# Altium footprint library PCB_Library.PcbLib: 21 footprints (part 1 of 2)
Each footprint in its own frame and in the unit in brackets; x right, y up, seen from the top. Pads: shape width x height; smd on the part's side, far side on the other; paste and mask are expansions set on the pad; w line width, h text height; cw(c..) or ccw(c..) is an arc to the next point about the centre after c.
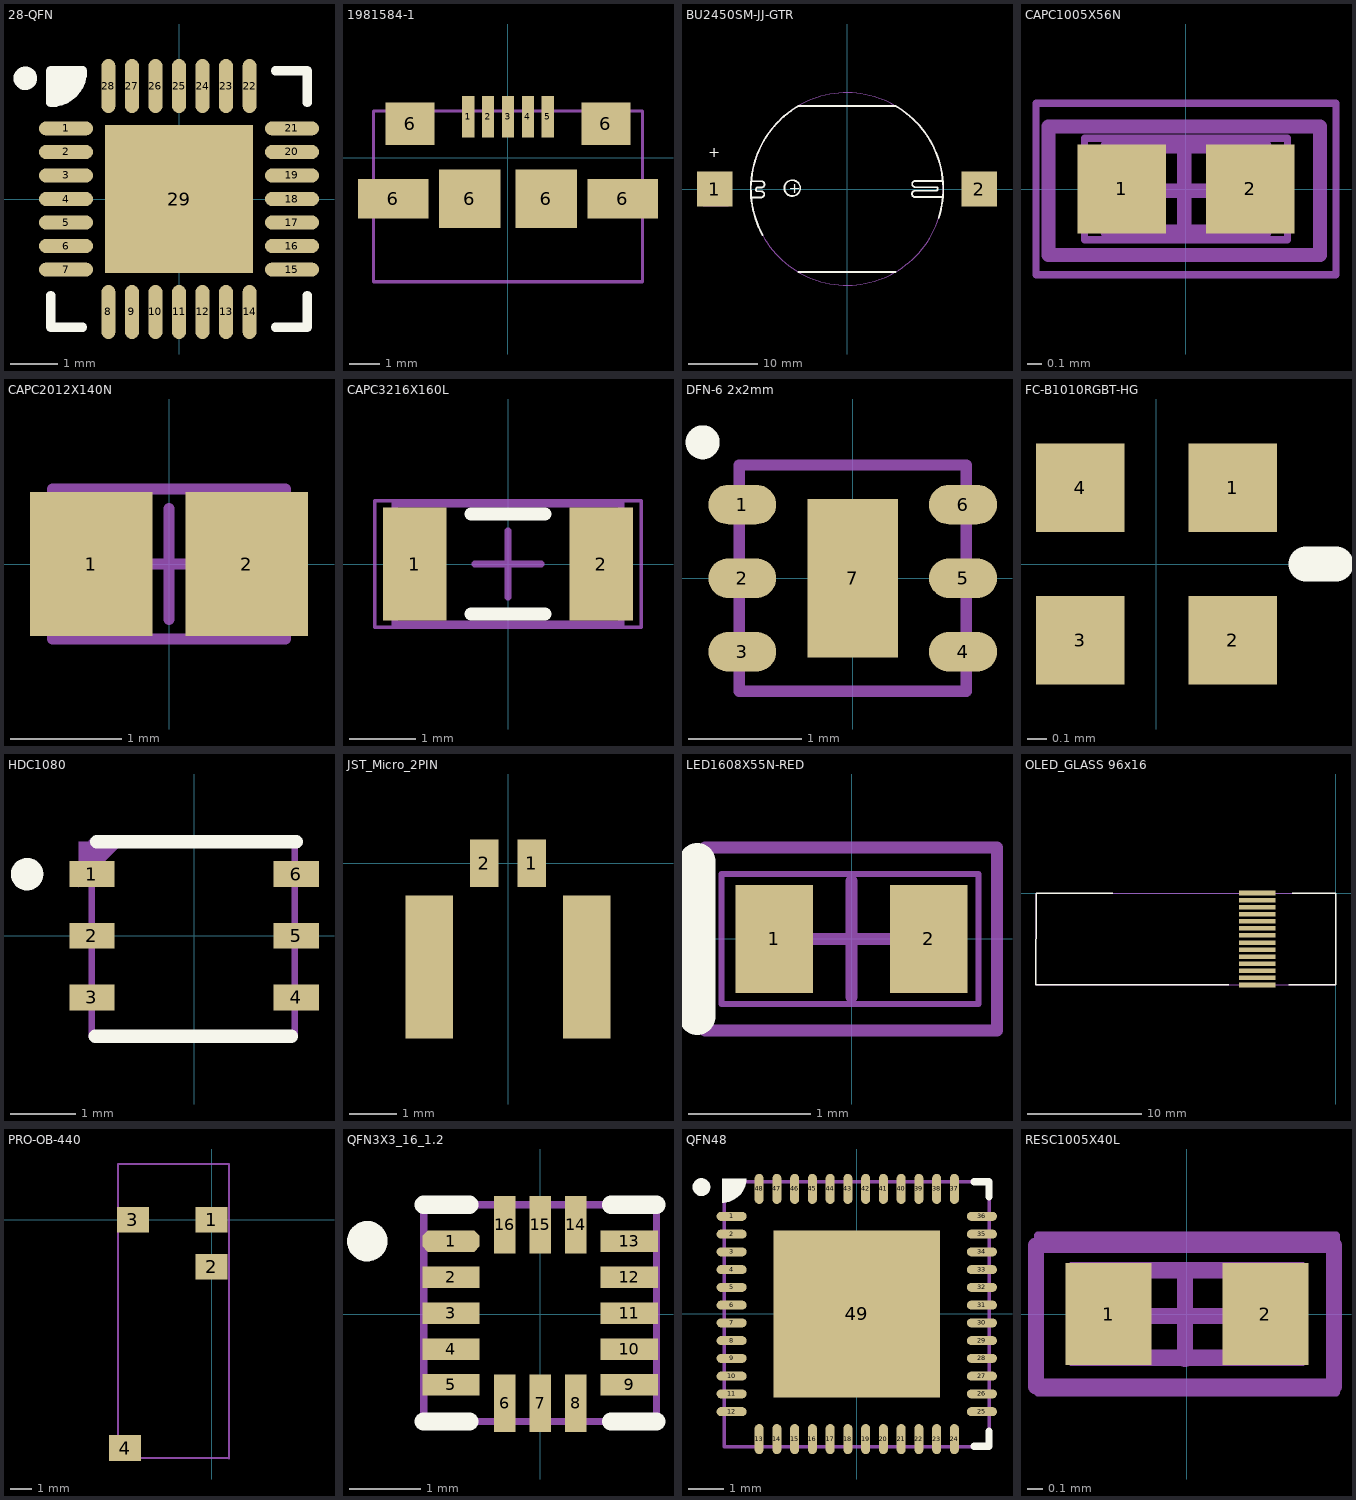
[diagram p0: the footprints below, top view; thin cyan lines are the x and y axes]

## 28-QFN [mm] "QFN, 28-Leads, Body 5.00x5.00mm, Pitch 0.50mm, Thermal Pad 3.15x3.15mm, IPC Medium Density"
height 1
pads (29):
  oval 1.15x0.3 smd: 1(-2.4,1.5) 2(-2.4,1) 3(-2.4,0.5) 4(-2.4,0) 5(-2.4,-0.5) 6(-2.4,-1) 7(-2.4,-1.5) 15(2.4,-1.5) 16(2.4,-1) 17(2.4,-0.5) 18(2.4,0) 19(2.4,0.5) 20(2.4,1) 21(2.4,1.5)
  oval 0.3x1.15 smd: 8(-1.5,-2.4) 9(-1,-2.4) 10(-0.5,-2.4) 11(0,-2.4) 12(0.5,-2.4) 13(1,-2.4) 14(1.5,-2.4) 22(1.5,2.4) 23(1,2.4) 24(0.5,2.4) 25(0,2.4) 26(-0.5,2.4) 27(-1,2.4) 28(-1.5,2.4)
  rect 3.15x3.15 smd paste-0.635: 29(0,0)
Top Overlay:
  circle w0.25: c-3.266,2.565 r0.125
  region: -2.725,2.725 -2.05,2.725 -2.05,2.659 -2.076,2.528 -2.127,2.405 -2.201,2.295 -2.295,2.201 -2.405,2.127 -2.528,2.076 -2.659,2.05 -2.725,2.05
  lines w0.2: -2.725,-2.05 -2.725,-2.725 -2.05,-2.725 ; 2.05,-2.725 2.725,-2.725 2.725,-2.05 ; 2.05,2.725 2.725,2.725 2.725,2.05 ; -2.725,2.05 ccw(c-2.725,2.725) -2.05,2.725 -2.725,2.725 -2.725,2.05
Mechanical 15:
  lines w0.1: -0.5,0 0.5,0 ; 0,-0.5 0,0.5
3D body: height 1, standoff 0.01, extent -2.575,-2.575 2.575,2.575

## 1981584-1 [mm] "CONN RCPT MICRO USB TYPE AB"
height 3.2
pads (11):
  rect 0.4x1.35 smd: 1(-1.3,1.338) 2(-0.65,1.338) 3(0,1.338) 4(0.65,1.338) 5(1.3,1.338)
  rect 2.3x1.3 smd: 6(-3.75,-1.337) 6(3.75,-1.337)
  rect 1.6x1.4 smd: 6(-3.2,1.113) 6(3.2,1.113)
  rect 2x1.9 smd: 6(-1.25,-1.337) 6(1.25,-1.337)
Mechanical 5:
  lines w0.102: -4.4,-4.05 -4.4,1.525 4.4,1.525 4.4,-4.05 -4.4,-4.05
  text ".Designator" at -2.54,2.794 h0.51
3D body "1981584-1.STEP": height 2.75, standoff -0.3, extent -4.4,-4.05 4.4,1.55

## BU2450SM-JJ-GTR [mm] "HOLDER,BATT,COIN,24.5MM,SMT"
height 7.112
pads (2):
  rect 5.08x5.08 smd: 1(-19.05,0) 2(19.05,0)
Top Overlay:
  circle w0.254: c-7.874,0.127 r1.143
  lines w0.254: -13.792,-1.219 -12.361,-1.219 ccw(c-12.362,-0.769) -12.364,-0.318 -12.999,-0.318 ; -13.76,1.108 -12.328,1.108 cw(c-12.329,0.658) -12.332,0.207 -12.967,0.207 ccw(c-12.742,-0.08) -13.03,-0.305 ; -12.163,-6.609 cw(c0,0) -6.991,11.948 ; -6.985,-11.938 6.985,-11.938 ; -6.985,11.938 -0.127,11.938 0.127,11.938 6.985,11.938 ; 6.991,11.948 cw(c0,0) 13.2,-4.168 ; 12.903,0.267 9.833,0.267 cw(c9.831,0.718) 9.83,1.168 13.741,1.168 ; 12.979,0.254 cw(c12.692,0.03) 12.916,-0.258 9.801,-0.258 ccw(c9.798,-0.709) 9.797,-1.159 13.709,-1.159
  text "+" at -19.99,4.547 h1.52
  text "+" at -8.382,-0.635 h1.52
Mechanical 5:
  lines w0.102: -17.619,2.374 -17.568,2.426 ; -17.136,2.4 -20.701,2.4 -20.701,-2.4 -17.085,-2.4 ; -13.633,-2.404 ccw(c0,0) -13.633,2.404
  text ".Designator" at 0,-0.254 h0.51
3D body "BU2450SM-JJ-GTR.STEP": height 7.38, standoff 0.13, extent -21.377,-12 21.123,12
3D body: height 3, standoff 0, extent 54.991,-14.478 54.991,-14.478
3D body: height 3, standoff 0, extent 84.582,7.112 84.582,7.112
3D body: height 3, standoff 0, extent 88.519,-1.651 88.519,-1.651
3D body "CR2450.step": height 6.58, standoff 1.5, extent -12.319,-12.063 12.064,12.319

## CAPC1005X56N [mm] "Chip Capacitor, 2-Leads, Body 1.0x0.5mm, IPC Medium Density (0402 ceramic)"
height 0.56
pads (2):
  rect 0.62x0.62 smd paste-0.305: 1(-0.45,0) 2(0.45,0)
Mechanical 5:
  lines w0.051: -0.711,-0.356 -0.711,0.356 0.711,0.356 0.711,-0.356 -0.711,-0.356
  text ".Designator" at -0.254,-0.203 h0.38
Mechanical 13:
  lines w0.1: -0.55,-0.3 0.55,-0.3 0.55,0.3 -0.55,0.3 -0.55,-0.3
Mechanical 15:
  lines w0.05: -0.3,0 0.3,0 ; 0,-0.3 0,0.3 ; -1.05,-0.6 1.05,-0.6 1.05,0.6 -1.05,0.6 -1.05,-0.6
  lines w0.1: -0.287,-0.013 0.263,-0.013 ; -0.012,-0.288 -0.012,0.262 ; -0.962,-0.463 0.938,-0.463 0.938,0.437 -0.962,0.437 -0.962,-0.463
3D body "RESC1005X40N.STEP": height 0.39, standoff -0.01, extent -0.512,-0.263 0.488,0.237
3D body: height 0.6, standoff 0, extent 0.3,-0.3 0.55,0.3
3D body: height 0.6, standoff 0, extent -0.55,-0.3 -0.3,0.3
3D body: height 0.6, standoff 0, extent -0.3,-0.3 0.3,0.3

## CAPC2012X140N [mm] "Chip Capacitor, 2-Leads, Body 2.0x1.3mm, IPC Medium Density (0805 ceramic)"
height 1.35
pads (2):
  rect 1.1x1.3 smd: 1(-0.7,0) 2(0.7,0)
Mechanical 5:
  lines w0.1: -1.05,-0.675 1.05,-0.675 1.05,0.675 -1.05,0.675 -1.05,-0.675
  text ".Designator" at -0.33,-0.254 h0.51
Mechanical 15:
  lines w0.1: -0.5,0 0.5,0 ; 0,-0.5 0,0.5
3D body "CAPC2012X140N.STEP": height 1.24, standoff -0.01, extent -1,-0.62 1,0.63

## CAPC3216X160L [mm] "Chip Capacitor, 2-Leads, Body 3.2x1.6mm, IPC Least Density(C1206)"
height 1.6
pads (2):
  rect 0.95x1.7 smd: 1(-1.4,0) 2(1.4,0)
Top Overlay:
  lines w0.2: -0.55,-0.75 0.55,-0.75 ; -0.55,0.75 0.55,0.75
Mechanical 5:
  lines w0.1: -1.7,-0.9 -1.7,0.9 1.7,0.9 1.7,-0.9 -1.7,-0.9
  text ".Designator" at -0.33,-0.254 h0.51
Mechanical 15:
  lines w0.05: -2,-0.95 -2,0.95 2,0.95 2,-0.95 -2,-0.95
  lines w0.1: -0.5,0 0.5,0 ; 0,-0.5 0,0.5
3D body: height 1.9, standoff 0, extent -1.2,-0.9 1.2,0.9
3D body: height 1.9, standoff 0, extent -1.7,-0.9 -1.2,0.9
3D body: height 1.9, standoff 0, extent 1.2,-0.9 1.7,0.9

## DFN-6 2x2mm [mm] "DFN, 6-Leads, Body 2.00x2.00mm, Pitch 0.65mm, IPC High Density"
height 0.8
pads (7):
  oval 0.6x0.35 smd: 1(-0.975,0.65) 2(-0.975,0) 3(-0.975,-0.65) 4(0.975,-0.65) 5(0.975,0) 6(0.975,0.65)
  rect 0.8x1.4 smd paste-0.15: 7(0,0)
Top Overlay:
  circle w0.2: c-1.325,1.2 r0.05
Mechanical 5:
  lines w0.1: -1.002,-1 -1.002,1 1.002,1 1.002,-1 -1.002,-1 ; -1.002,-1 -1.002,-1
3D body "DFN 6 2x2.step": height 0.75, standoff 0, extent -1.002,-1 1.002,1
3D body: height 4.99, standoff 0, extent 2.65,-0.275 2.65,-0.275

## FC-B1010RGBT-HG [mm] "LED,RGB,SMD,RoHS"
pads (4):
  rect 0.45x0.45 smd: 1(0.387,0.388) 2(0.387,-0.387) 3(-0.387,-0.387) 4(-0.387,0.388)
Top Overlay:
  lines w0.178: 0.761,0 0.914,0
Mechanical 5:
  text ".Designator" at -0.225,-0.25 h0.51
3D body: height 1.2, standoff -1.2, extent -0.387,0.388 -0.387,0.388
3D body: height 0.9, standoff 0, extent -0.525,-0.55 0.525,0.575

## HDC1080 [mm] "Temp/Humidity Sensor"
pads (6):
  rect 0.7x0.4 smd paste-0.381 mask+0.076: 1(-1.575,0.95) 2(-1.575,0) 3(-1.575,-0.95) 4(1.575,-0.95) 5(1.575,0) 6(1.575,0.95)
Top Overlay:
  circle w0.25: c-2.575,0.95 r0.125
  lines w0.203: -1.525,-1.55 1.5,-1.55 ; -1.5,1.45 1.575,1.45
Mechanical 5:
  region: -1.775,1.45 -1.075,1.45 -1.775,0.75
  lines w0.1: -1.575,-1.55 -1.575,1.45 1.55,1.45 1.55,-1.55 -1.575,-1.55
  text ".Designator" at -0.554,-0.279 h0.51
3D body "HDC1080.step": height 0.85, standoff 0.05, extent -1.55,-1.5 1.55,1.5

## JST_Micro_2PIN [mm]
height 1.27
pads (4):
  rect 0.6x1 smd: 1(0.5,0) 2(-0.5,0)
  rect 1x3 smd: ""(-1.65,-2.175) ""(1.65,-2.175)
3D body "User Library-JST_SM02B-SRSS-TB.step": height 2.9, standoff -0.1, extent -1.988,-4.743 2,0.243

## LED1608X55N-RED [mil] "Chip LED RED, 2-Leads, Body 1.6x0.8mm, IPC Medium Density (0603 med)"
pads (2):
  rect 25x35 smd: 1(-25,0) 2(25,0)
Top Overlay:
  lines w12: -49.94,-25 -49.94,25
Mechanical 5:
  lines w2: -42,-21 41,-21 41,21 -42,21 -42,-21
  text ".Designator" at -13,-10 h20
Mechanical 15:
  lines w3.94: -18.7,0 18.7,0 ; 0,-18.7 0,18.7 ; -47.25,-29.53 -47.25,29.53 47,29.53 47,-29.53 -47.25,-29.53
3D body "LED_0603_R.STEP": height 23.62, standoff -0.08, extent -31.49,-15.74 31.5,15.75

## OLED_GLASS 96x16 [mm] "OLED_GLASS 96x16"
height 3.2
pads (14):
  rect 3.175x0.4 smd paste-2.54: 1(-6.9,-8.02) 2(-6.9,-7.4) 3(-6.9,-6.78) 4(-6.9,-6.16) 5(-6.9,-5.54) 6(-6.9,-4.92) 7(-6.9,-4.3) 8(-6.9,-3.68) 9(-6.9,-3.06) 10(-6.9,-2.44) 11(-6.9,-1.82) 12(-6.9,-1.2) 13(-6.9,-0.58) 14(-6.9,0.04)
Top Overlay:
  lines w0.127: -19.572,0 -26.3,0 -26.3,-8 -9.402,-8 ; -4.164,-8 0,-8 0,0 -3.814,0
Mechanical 5:
  lines w0.102: -26.3,-8 -26.3,0 0,0 0,-8 -26.3,-8
Mechanical 6:
  text ".Designator" at -2.8,-4.055 h0.51
3D body: height 2, standoff 1, extent -26.3,-8 0,0

## PRO-OB-440 [mm] "RF ANT 2.4GHZ STAMPED MET SLD"
height 3.53
pads (4):
  rect 1.5x1.2 smd paste-0.762 mask+0.2: 1(0,0) 2(0,-2.2)
  rect 1.5x1.2 smd paste-0.762 mask+0.3: 3(-3.7,0) 4(-4.064,-10.709)
Mechanical 5:
  lines w0.1: -4.391,-11.183 0.809,-11.186 ; -4.391,2.617 0.809,2.614
  lines w0.102: -4.391,-11.183 -4.391,2.617 ; 0.809,-11.186 0.809,2.614
  text ".Designator" at -2.6,-4.5 h0.51
3D body "PRO-OB-440.STEP": height 3.56, standoff 0.03, extent -4.421,-11.136 0.809,2.614
3D body: height 0.25, standoff 0, extent 7.979,2.239 7.979,2.239

## QFN3X3_16_1.2 [mm] "QFN3X3_16_1.2"
height 1.27
pads (16):
  oct 0.8x0.3 smd: 1(-1.245,1.016)
  rect 0.8x0.3 smd: 2(-1.245,0.514) 3(-1.245,0.013) 4(-1.245,-0.489) 5(-1.245,-0.991) 9(1.245,-0.991) 10(1.245,-0.489) 11(1.245,0.013) 12(1.245,0.514) 13(1.245,1.016)
  rect 0.3x0.8 smd: 6(-0.495,-1.245) 7(0,-1.245) 8(0.495,-1.245) 14(0.495,1.245) 15(0,1.245) 16(-0.495,1.245)
Top Overlay:
  circle w0.305: c-2.413,1.016 r0.13
  lines w0.254: -1.626,-1.499 -0.991,-1.499 ; -1.626,1.524 -0.991,1.524 ; 0.991,-1.499 1.626,-1.499 ; 0.991,1.524 1.626,1.524
Top Solder:
  rectangle: -0.762,-0.762 0.787,0.787
Mechanical 5:
  lines w0.1: -1.626,-1.499 -1.626,1.524 1.626,1.524 1.626,-1.499 -1.626,-1.499
  text ".Designator" at -0.254,-0.254 h0.51
3D body "QFN50P300X300X80-10N.STEP": height 0.81, standoff -0.01, extent -1.51,-1.5 1.51,1.5

## QFN48 [mm] "QFN, 48-Leads, Body 7x7mm, Pitch 0.5mm, IPC Medium Density"
height 0.9
pads (49):
  oval 0.85x0.25 smd: 1(-3.525,2.75) 2(-3.525,2.25) 3(-3.525,1.75) 4(-3.525,1.25) 5(-3.525,0.75) 6(-3.525,0.25) 7(-3.525,-0.25) 8(-3.525,-0.75) 9(-3.525,-1.25) 10(-3.525,-1.75) 11(-3.525,-2.25) 12(-3.525,-2.75) 25(3.525,-2.75) 26(3.525,-2.25) 27(3.525,-1.75) 28(3.525,-1.25) 29(3.525,-0.75) 30(3.525,-0.25) 31(3.525,0.25) 32(3.525,0.75) 33(3.525,1.25) 34(3.525,1.75) 35(3.525,2.25) 36(3.525,2.75)
  oval 0.25x0.85 smd: 13(-2.75,-3.525) 14(-2.25,-3.525) 15(-1.75,-3.525) 16(-1.25,-3.525) 17(-0.75,-3.525) 18(-0.25,-3.525) 19(0.25,-3.525) 20(0.75,-3.525) 21(1.25,-3.525) 22(1.75,-3.525) 23(2.25,-3.525) 24(2.75,-3.525) 37(2.75,3.525) 38(2.25,3.525) 39(1.75,3.525) 40(1.25,3.525) 41(0.75,3.525) 42(0.25,3.525) 43(-0.25,3.525) 44(-0.75,3.525) 45(-1.25,3.525) 46(-1.75,3.525) 47(-2.25,3.525) 48(-2.75,3.525)
  rect 4.7x4.7 smd paste-0.5: 49(0,0)
Top Overlay:
  circle w0.25: c-4.375,3.575 r0.125
  region: -3.792,3.81 -3.117,3.81 -3.117,3.744 -3.143,3.613 -3.194,3.49 -3.268,3.38 -3.362,3.286 -3.472,3.212 -3.595,3.161 -3.725,3.135 -3.792,3.135
  lines w0.2: 3.3,-3.725 3.725,-3.725 3.725,-3.3 ; 3.3,3.725 3.725,3.725 3.725,3.3
Mechanical 5:
  lines w0.102: -3.734,-3.734 3.734,-3.734 3.734,3.725 -3.734,3.725 -3.734,-3.734
  text ".Designator" at -0.254,-0.254 h0.51
Mechanical 15:
  lines w0.1: -0.5,0 0.5,0 ; 0,-0.5 0,0.5
3D body "QFN48_7x7.step": height 0.78, standoff -0.02, extent -3.518,-3.51 3.502,3.51

## RESC1005X40L [mm] "Chip Resistor, 2-Leads, Body 1.0x0.5mm, IPC Medium Density (0402)"
height 0.4
pads (2):
  rect 0.55x0.65 smd: 1(-0.5,0) 2(0.5,0)
Mechanical 5:
  lines w0.051: -0.737,-0.305 -0.737,0.305 0.737,0.305 0.737,-0.305 -0.737,-0.305
  text ".Designator" at -0.229,-0.178 h0.38
Mechanical 13:
  lines w0.1: -0.525,-0.275 0.525,-0.275 0.525,0.275 -0.525,0.275 -0.525,-0.275
Mechanical 15:
  lines w0.05: -0.275,0 0.275,0 ; 0,-0.275 0,0.275 ; -0.95,-0.5 0.95,-0.5 0.95,0.5 -0.95,0.5 -0.95,-0.5
  lines w0.1: -0.287,-0.013 0.263,-0.013 ; -0.012,-0.288 -0.012,0.262 ; -0.962,-0.463 0.938,-0.463 0.938,0.437 -0.962,0.437 -0.962,-0.463
3D body "RES-0402.step": height 0.41, standoff 0, extent -0.575,-0.275 0.575,0.275